# EAGLE library part SN74LVC1G139 (library My Library-adm)
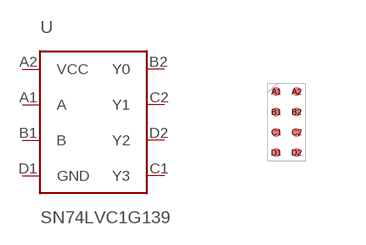
[diagram p34: symbol with the pads of BGA8C50P2X4_190X90X50; footprint BGA8C50P2X4_190X90X50]

Designator prefix -

## SN74LVC1G139  [BGA8C50P2X4_190X90X50]
A1  A
A2  VCC
B1  B
B2  Y0
C1  Y3
C2  Y1
D1  GND
D2  Y2

## Footprint BGA8C50P2X4_190X90X50 (pad centres in mm)
smd 0.229 x 0.229: A1 -0.254,0.762; A2 0.254,0.762; B1 -0.254,0.254; B2 0.254,0.254; C1 -0.254,-0.254; C2 0.254,-0.254; D1 -0.254,-0.762; D2 0.254,-0.762